# EAGLE library part MCP4822-E/SN (library MCP4822-E_SN)
Check availability <https://pricing.snapeda.com/parts/MCP4822-E/SN/Microchip/view-part?ref=eda>
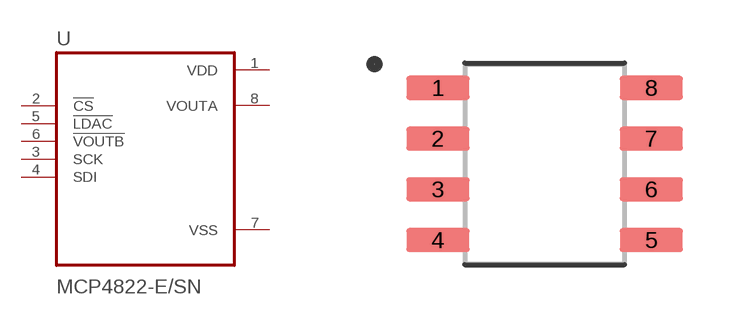
[diagram p0: symbol with the pads of SOIC127P599X175-8N; footprint SOIC127P599X175-8N]

Designator prefix -

## MCP4822-E/SN (Availability: In Stock; Check_prices: https://www.snapeda.com/parts/MCP4822-E/SN/Microchip/view-part/?ref=eda; Description: Dual 12-Bit Dac With Spi Interace And Internal Vref, Soic-8 | Microchip Technology Inc. MCP4822-E/SN; MF: Microchip; MP: MCP4822-E/SN; Package: SO-8 Microchip; Price: None; SnapEDA_Link: https://www.snapeda.com/parts/MCP4822-E/SN/Microchip/view-part/?ref=snap)  [SOIC127P599X175-8N]
1  VDD  pwr
2  !CS  in
3  SCK  in
4  SDI  in
5  !LDAC  in
6  !VOUTB  in
7  VSS  pwr
8  VOUTA  out

## Footprint SOIC127P599X175-8N (pad centres in mm)
smd 1.58 x 0.6: 1 -2.67,1.905; 2 -2.67,0.635; 3 -2.67,-0.635; 4 -2.67,-1.905; 5 2.67,-1.905; 6 2.67,-0.635; 7 2.67,0.635; 8 2.67,1.905